# EAGLE library part DS2417 (library 1wire)
Time Chip With Interrupt This chip provides an RTC with time and date function. It operates with 2.5..5V at Vdd. The INT pin generates a low pulse every 1, 4, 32, 64, 2048, 4096, 65536, or 131072s (selectable by software). Notes: For proper operation the X1/X2 pins have to be connected to a 32768Hz crystal. The X1/X2 pins and the crystal should get a separate guard ring connected to ground the shortest way possible. The DS2415 is a similar older chip without the INT feature and need for external circuitry. Use the DS2417 for new designs instead. Author: Jan Kandziora <jjj@gmx.de>
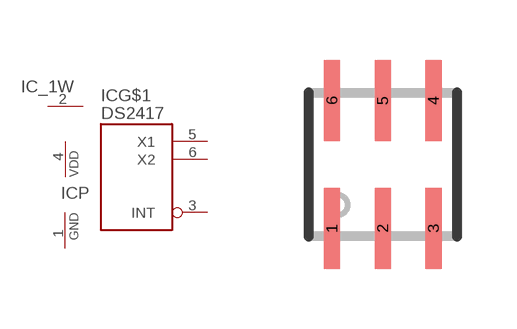
[diagram p5: symbol with the pads of TSOC6; footprint TSOC6]

Designator prefix IC; gates G$1=DS2417 _1W=1W P=VDD-GND

## DS2417P  [TSOC6]
1  P:GND  pwr
2  _1W:1W  pwr
3  G$1:INT  oc
4  P:VDD  pwr
5  G$1:X1  pas
6  G$1:X2  pas

## Footprint TSOC6 (pad centres in mm)
TSOC 6
smd 0.406 x 2.032: 1 -1.27,-1.6; 2 0,-1.6; 3 1.27,-1.6; 4 1.27,1.6; 5 0,1.6; 6 -1.27,1.6